# Altium integrated library ON Semi Silicon Controlled Rectifiers (SCRs).IntLib: 163 symbols (part 2 of 4)
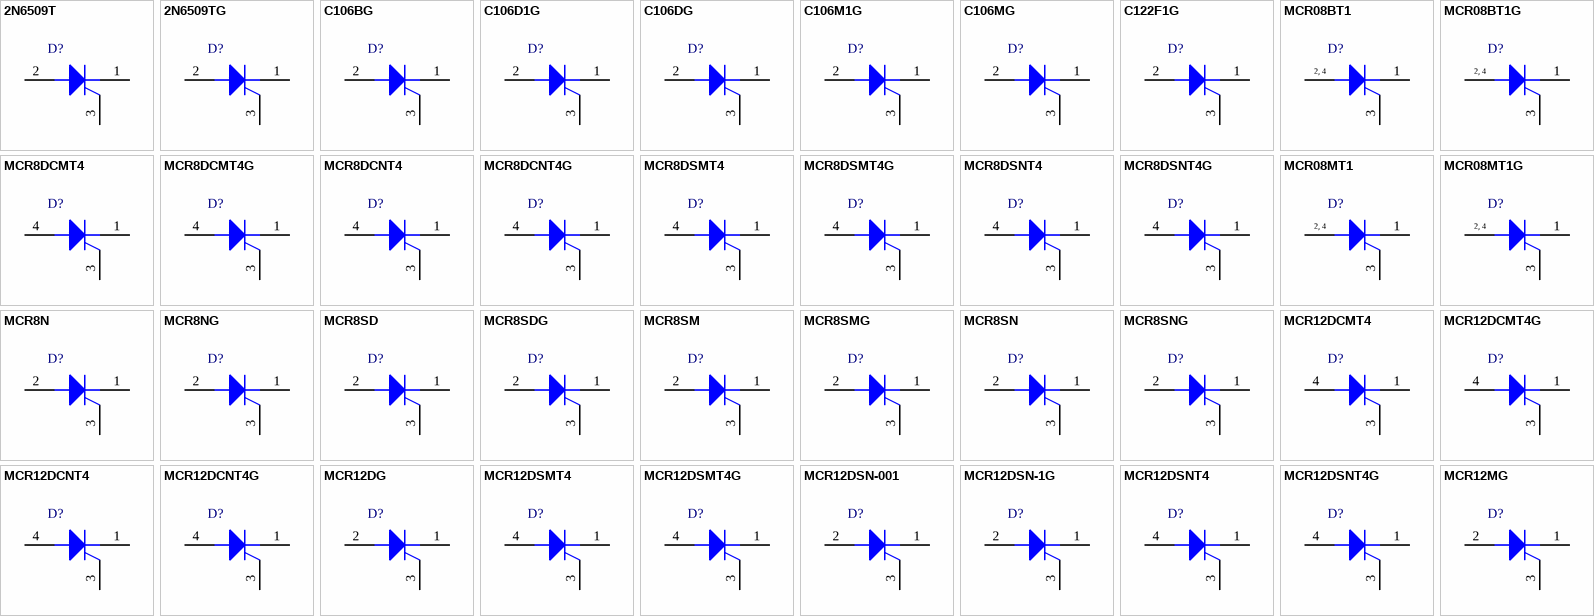
[diagram p5: symbols 2N6509T to MCR12MG]

## C106MG
designator D?
Sensitive Gate Silicon Controlled Rectifier, Reverse Blocking Thyristor, 3-Pin TO-225, Pb-Free, Bulk Box; Manufacturer: On Semiconductor; PartNumber: C106MG; IT(RMS) Max (A): 4; ITSM Max (A): 20; DatasheetVersion: Rev. 10; PackageVersion: Rev. Z; PackageReference: TO-225-3-77-09; PackageDescription: 3-Pin Flange Mount, Vertical Straight Lead, Body 7.62 x 2.54 mm, Pitch 2.39 mm; Supplier 1: Digi-Key; Supplier Part Number 1: C106MGOS-ND; Supplier 2: Farnell; Supplier Part Number 2: 1126403; Supplier 3: Newark; Supplier Part Number 3: 45J0658; Supplier 4: Mouser; Supplier Part Number 4: 863-C106MG; Packing: Bulk Box; RoHS: Pb-Free; Mounting Technology: Through Hole; ComponentLink1Description: Manufacturer URL; ComponentLink1URL: http://www.onsemi.com/; ComponentLink2Description: Datasheet; ComponentLink2URL: http://www.onsemi.cn/pub_link/Collateral/C106-D.PDF; ComponentLink3Description: Package Specification; ComponentLink3URL: http://www.onsemi.cn/pub_link/Collateral/C106-D.PDF
footprint ONSC-TO-225-3-77-09_Z (FM, 3-Leads, Body 7.75x2.7mm, Pitch 2.39mm)
pins: 1 K, 2 A, 3 G

## C122F1G
designator D?
Silicon Controlled Rectifier, Reverse Blocking Thyristor, 3-Pin TO-220, Pb-Free, Bulk Box; Manufacturer: On Semiconductor; PartNumber: C122F1G; IT(RMS) Max (A): 8; ITSM Max (A): 90; DatasheetVersion: Rev. 4; PackageVersion: Rev. O, 07/2008; PackageReference: TO-220-3-221A-07; PackageDescription: 3-Pin Flange Mount, Vertical Straight Lead, Body 9.97 x 4.445 mm, Pitch 2.54 mm; Supplier 1: Digi-Key; Supplier Part Number 1: C122F1GOS-ND; Supplier 2: Farnell; Supplier Part Number 2: 1192531; Supplier 3: Newark; Supplier Part Number 3: 26K3584; Supplier 4: Mouser; Supplier Part Number 4: 863-C122F1G; Packing: Bulk Box; RoHS: Pb-Free; Mounting Technology: Through Hole; ComponentLink1Description: Manufacturer URL; ComponentLink1URL: http://www.onsemi.com/; ComponentLink2Description: Datasheet; ComponentLink2URL: http://www.onsemi.cn/pub_link/Collateral/C122F1-D.PDF; ComponentLink3Description: Package Specification; ComponentLink3URL: http://www.onsemi.com/pub_link/Collateral/221A-07.PDF
footprint ONSC-TO-220-3-221A-07 (FM, 3-Leads, Body 10.3x4.85mm, Pitch 2.54mm)
pins: 1 K, 2 A, 3 G

## MCR08BT1
designator D?
Sensitive Gate Silicon Controlled Rectifier, Reverse Blocking Thyristor, 0.2 mA, 0.8 V, 4-Pin SOT-223, Tape and Reel; Manufacturer: On Semiconductor; PartNumber: MCR08BT1; IGT Max (mA): 0.2; IT(RMS) Max (A): 0.8; ITSM Max (A): 8; DatasheetVersion: Rev. 6; PackageVersion: Rev. N, 08/2009; PackageReference: SOT-223-4-318E-04; PackageDescription: 4-Pin Small Outline Transistor, Body 6.5 x 3.5 mm, Pitch 2.3 mm; Supplier 1: Digi-Key; Supplier Part Number 1: MCR08BT1OSCT-ND; Supplier 2: Digi-Key; Supplier Part Number 2: MCR08BT1OSDKR-ND; Packing: Tape and Reel; VGT Max (V): 0.8; Mounting Technology: Surface Mount; ComponentLink1Description: Manufacturer URL; ComponentLink1URL: http://www.onsemi.com/; ComponentLink2Description: Datasheet; ComponentLink2URL: http://www.onsemi.cn/pub_link/Collateral/MCR08BT1-D.PDF; ComponentLink3Description: Package Specification; ComponentLink3URL: http://www.onsemi.com/pub_link/Collateral/318E-04.PDF
footprint ONSC-SOT-223-4-318E-04_V (SOT223, 4-Leads, Body 6.5x3.5mm, Pitch 2.3mm)
pins: 1 K, 2 A, 3 G, 4 A
text: 2, 4

## MCR08BT1G
designator D?
Sensitive Gate Silicon Controlled Rectifier, Reverse Blocking Thyristor, 0.2 mA, 0.8 V, 4-Pin SOT-223, Pb-Free, Tape and Reel; Manufacturer: On Semiconductor; PartNumber: MCR08BT1G; IGT Max (mA): 0.2; IT(RMS) Max (A): 0.8; ITSM Max (A): 8; DatasheetVersion: Rev. 6; PackageVersion: Rev. N, 08/2009; PackageReference: SOT-223-4-318E-04; PackageDescription: 4-Pin Small Outline Transistor, Body 6.5 x 3.5 mm, Pitch 2.3 mm; Supplier 1: Digi-Key; Supplier Part Number 1: MCR08BT1GOSTR-ND; Supplier 2: Digi-Key; Supplier Part Number 2: MCR08BT1GOSCT-ND; Supplier 3: Digi-Key; Supplier Part Number 3: MCR08BT1GOSDKR-ND; Supplier 4: Farnell; Supplier Part Number 4: 2317529; Supplier 5: Newark; Supplier Part Number 5: 45J0814; Supplier 6: Mouser; Supplier Part Number 6: 863-MCR08BT1G; Packing: Tape and Reel; RoHS: Pb-Free; VGT Max (V): 0.8; Mounting Technology: Surface Mount; ComponentLink1Description: Manufacturer URL; ComponentLink1URL: http://www.onsemi.com/; ComponentLink2Description: Datasheet; ComponentLink2URL: http://www.onsemi.cn/pub_link/Collateral/MCR08BT1-D.PDF; ComponentLink3Description: Package Specification; ComponentLink3URL: http://www.onsemi.com/pub_link/Collateral/318E-04.PDF
footprint ONSC-SOT-223-4-318E-04_V (SOT223, 4-Leads, Body 6.5x3.5mm, Pitch 2.3mm)
pins: 1 K, 2 A, 3 G, 4 A
text: 2, 4

## MCR8DCMT4
designator D?
Silicon Controlled Rectifier, Reverse Blocking Thyristor, 3-Pin DPAK, Tape and Reel; Manufacturer: On Semiconductor; PartNumber: MCR8DCMT4; IT(RMS) Max (A): 8; ITSM Max (A): 80; DatasheetVersion: Rev. 4; PackageVersion: Rev. E, 02/2014; PackageReference: DPAK-3-369C-01; PackageDescription: 3-Pin Flange Mount, Body 6.54 x 6.095 mm, Pitch 2.29 mm; Supplier 1: Digi-Key; Supplier Part Number 1: MCR8DCMT4-ND; Packing: Tape and Reel; Mounting Technology: Surface Mount; ComponentLink1Description: Manufacturer URL; ComponentLink1URL: http://www.onsemi.com/; ComponentLink2Description: Datasheet; ComponentLink2URL: http://www.onsemi.cn/pub_link/Collateral/MCR8DCM-D.PDF; ComponentLink3Description: Package Specification; ComponentLink3URL: http://www.onsemi.cn/pub_link/Collateral/369C.PDF
footprint ONSC-DPAK-3-369C-01_V (DPAK, 3-Leads, Body 6.54x6.095mm, Pitch 2.29mm)
pins: 1 K, 3 G, 4 A

## MCR8DCMT4G
designator D?
Silicon Controlled Rectifier, Reverse Blocking Thyristor, 3-Pin DPAK, Pb-Free, Tape and Reel; Manufacturer: On Semiconductor; PartNumber: MCR8DCMT4G; IT(RMS) Max (A): 8; ITSM Max (A): 80; DatasheetVersion: Rev. 4; PackageVersion: Rev. E, 02/2014; PackageReference: DPAK-3-369C-01; PackageDescription: 3-Pin Flange Mount, Body 6.54 x 6.095 mm, Pitch 2.29 mm; Supplier 1: Digi-Key; Supplier Part Number 1: MCR8DCMT4GOSTR-ND; Supplier 2: Digi-Key; Supplier Part Number 2: MCR8DCMT4GOSCT-ND; Supplier 3: Digi-Key; Supplier Part Number 3: MCR8DCMT4GOSDKR-ND; Supplier 4: Farnell; Supplier Part Number 4: 1363004; Supplier 5: Newark; Supplier Part Number 5: 11J1347; Supplier 6: Mouser; Supplier Part Number 6: 863-MCR8DCMT4G; Packing: Tape and Reel; RoHS: Pb-Free; Mounting Technology: Surface Mount; ComponentLink1Description: Manufacturer URL; ComponentLink1URL: http://www.onsemi.com/; ComponentLink2Description: Datasheet; ComponentLink2URL: http://www.onsemi.cn/pub_link/Collateral/MCR8DCM-D.PDF; ComponentLink3Description: Package Specification; ComponentLink3URL: http://www.onsemi.cn/pub_link/Collateral/369C.PDF
footprint ONSC-DPAK-3-369C-01_V (DPAK, 3-Leads, Body 6.54x6.095mm, Pitch 2.29mm)
pins: 1 K, 3 G, 4 A

## MCR8DCNT4
designator D?
Silicon Controlled Rectifier, Reverse Blocking Thyristor, 3-Pin DPAK, Tape and Reel; Manufacturer: On Semiconductor; PartNumber: MCR8DCNT4; IT(RMS) Max (A): 8; ITSM Max (A): 80; DatasheetVersion: Rev. 4; PackageVersion: Rev. E, 02/2014; PackageReference: DPAK-3-369C-01; PackageDescription: 3-Pin Flange Mount, Body 6.54 x 6.095 mm, Pitch 2.29 mm; Packing: Tape and Reel; Mounting Technology: Surface Mount; ComponentLink1Description: Manufacturer URL; ComponentLink1URL: http://www.onsemi.com/; ComponentLink2Description: Datasheet; ComponentLink2URL: http://www.onsemi.cn/pub_link/Collateral/MCR8DCM-D.PDF; ComponentLink3Description: Package Specification; ComponentLink3URL: http://www.onsemi.cn/pub_link/Collateral/369C.PDF
footprint ONSC-DPAK-3-369C-01_V (DPAK, 3-Leads, Body 6.54x6.095mm, Pitch 2.29mm)
pins: 1 K, 3 G, 4 A

## MCR8DCNT4G
designator D?
Silicon Controlled Rectifier, Reverse Blocking Thyristor, 3-Pin DPAK, Pb-Free, Tape and Reel; Manufacturer: On Semiconductor; PartNumber: MCR8DCNT4G; IT(RMS) Max (A): 8; ITSM Max (A): 80; DatasheetVersion: Rev. 4; PackageVersion: Rev. E, 02/2014; PackageReference: DPAK-3-369C-01; PackageDescription: 3-Pin Flange Mount, Body 6.54 x 6.095 mm, Pitch 2.29 mm; Supplier 1: Digi-Key; Supplier Part Number 1: MCR8DCNT4GOSTR-ND; Supplier 2: Digi-Key; Supplier Part Number 2: MCR8DCNT4GOSCT-ND; Supplier 3: Newark; Supplier Part Number 3: 26K3709; Supplier 4: Mouser; Supplier Part Number 4: 863-MCR8DCNT4G; Packing: Tape and Reel; RoHS: Pb-Free; Mounting Technology: Surface Mount; ComponentLink1Description: Manufacturer URL; ComponentLink1URL: http://www.onsemi.com/; ComponentLink2Description: Datasheet; ComponentLink2URL: http://www.onsemi.cn/pub_link/Collateral/MCR8DCM-D.PDF; ComponentLink3Description: Package Specification; ComponentLink3URL: http://www.onsemi.cn/pub_link/Collateral/369C.PDF
footprint ONSC-DPAK-3-369C-01_V (DPAK, 3-Leads, Body 6.54x6.095mm, Pitch 2.29mm)
pins: 1 K, 3 G, 4 A

## MCR8DSMT4
designator D?
Sensitive Gate Silicon Controlled Rectifier, Reverse Blocking Thyristor, 3-Pin DPAK, Tape and Reel; Manufacturer: On Semiconductor; PartNumber: MCR8DSMT4; IT(RMS) Max (A): 8; ITSM Max (A): 90; DatasheetVersion: Rev. 7; PackageVersion: Rev. E, 02/2014; PackageReference: DPAK-3-369C-01; PackageDescription: 3-Pin Flange Mount, Body 6.54 x 6.095 mm, Pitch 2.29 mm; Supplier 1: Digi-Key; Supplier Part Number 1: MCR8DSMT4-ND; Packing: Tape and Reel; Mounting Technology: Surface Mount; ComponentLink1Description: Manufacturer URL; ComponentLink1URL: http://www.onsemi.com/; ComponentLink2Description: Datasheet; ComponentLink2URL: http://www.onsemi.cn/pub_link/Collateral/MCR8DSM-D.PDF; ComponentLink3Description: Package Specification; ComponentLink3URL: http://www.onsemi.cn/pub_link/Collateral/369C.PDF
footprint ONSC-DPAK-3-369C-01_V (DPAK, 3-Leads, Body 6.54x6.095mm, Pitch 2.29mm)
pins: 1 K, 3 G, 4 A

## MCR8DSMT4G
designator D?
Sensitive Gate Silicon Controlled Rectifier, Reverse Blocking Thyristor, 3-Pin DPAK, Pb-Free, Tape and Reel; Manufacturer: On Semiconductor; PartNumber: MCR8DSMT4G; IT(RMS) Max (A): 8; ITSM Max (A): 90; DatasheetVersion: Rev. 7; PackageVersion: Rev. E, 02/2014; PackageReference: DPAK-3-369C-01; PackageDescription: 3-Pin Flange Mount, Body 6.54 x 6.095 mm, Pitch 2.29 mm; Supplier 1: Digi-Key; Supplier Part Number 1: MCR8DSMT4GOSTR-ND; Supplier 2: Digi-Key; Supplier Part Number 2: MCR8DSMT4GOSCT-ND; Supplier 3: Digi-Key; Supplier Part Number 3: MCR8DSMT4GOSDKR-ND; Supplier 4: Newark; Supplier Part Number 4: 71J5368; Supplier 5: Mouser; Supplier Part Number 5: 863-MCR8DSMT4G; Packing: Tape and Reel; RoHS: Pb-Free; Mounting Technology: Surface Mount; ComponentLink1Description: Manufacturer URL; ComponentLink1URL: http://www.onsemi.com/; ComponentLink2Description: Datasheet; ComponentLink2URL: http://www.onsemi.cn/pub_link/Collateral/MCR8DSM-D.PDF; ComponentLink3Description: Package Specification; ComponentLink3URL: http://www.onsemi.cn/pub_link/Collateral/369C.PDF
footprint ONSC-DPAK-3-369C-01_V (DPAK, 3-Leads, Body 6.54x6.095mm, Pitch 2.29mm)
pins: 1 K, 3 G, 4 A

## MCR8DSNT4
designator D?
Sensitive Gate Silicon Controlled Rectifier, Reverse Blocking Thyristor, 3-Pin DPAK, Tape and Reel; Manufacturer: On Semiconductor; PartNumber: MCR8DSNT4; IT(RMS) Max (A): 8; ITSM Max (A): 90; DatasheetVersion: Rev. 7; PackageVersion: Rev. E, 02/2014; PackageReference: DPAK-3-369C-01; PackageDescription: 3-Pin Flange Mount, Body 6.54 x 6.095 mm, Pitch 2.29 mm; Packing: Tape and Reel; Mounting Technology: Surface Mount; ComponentLink1Description: Manufacturer URL; ComponentLink1URL: http://www.onsemi.com/; ComponentLink2Description: Datasheet; ComponentLink2URL: http://www.onsemi.cn/pub_link/Collateral/MCR8DSM-D.PDF; ComponentLink3Description: Package Specification; ComponentLink3URL: http://www.onsemi.cn/pub_link/Collateral/369C.PDF
footprint ONSC-DPAK-3-369C-01_V (DPAK, 3-Leads, Body 6.54x6.095mm, Pitch 2.29mm)
pins: 1 K, 3 G, 4 A

## MCR8DSNT4G
designator D?
Sensitive Gate Silicon Controlled Rectifier, Reverse Blocking Thyristor, 3-Pin DPAK, Pb-Free, Tape and Reel; Manufacturer: On Semiconductor; PartNumber: MCR8DSNT4G; IT(RMS) Max (A): 8; ITSM Max (A): 90; DatasheetVersion: Rev. 7; PackageVersion: Rev. E, 02/2014; PackageReference: DPAK-3-369C-01; PackageDescription: 3-Pin Flange Mount, Body 6.54 x 6.095 mm, Pitch 2.29 mm; Supplier 1: Digi-Key; Supplier Part Number 1: MCR8DSNT4G-ND; Supplier 2: Newark; Supplier Part Number 2: 85W2291; Supplier 3: Newark; Supplier Part Number 3: 45J0827; Supplier 4: Mouser; Supplier Part Number 4: 863-MCR8DSNT4G; Packing: Tape and Reel; RoHS: Pb-Free; Mounting Technology: Surface Mount; ComponentLink1Description: Manufacturer URL; ComponentLink1URL: http://www.onsemi.com/; ComponentLink2Description: Datasheet; ComponentLink2URL: http://www.onsemi.cn/pub_link/Collateral/MCR8DSM-D.PDF; ComponentLink3Description: Package Specification; ComponentLink3URL: http://www.onsemi.cn/pub_link/Collateral/369C.PDF
footprint ONSC-DPAK-3-369C-01_V (DPAK, 3-Leads, Body 6.54x6.095mm, Pitch 2.29mm)
pins: 1 K, 3 G, 4 A

## MCR08MT1
designator D?
Sensitive Gate Silicon Controlled Rectifier, Reverse Blocking Thyristor, 0.2 mA, 0.8 V, 4-Pin SOT-223, Tape and Reel; Manufacturer: On Semiconductor; PartNumber: MCR08MT1; IGT Max (mA): 0.2; IT(RMS) Max (A): 0.8; ITSM Max (A): 8; DatasheetVersion: Rev. 6; PackageVersion: Rev. N, 08/2009; PackageReference: SOT-223-4-318E-04; PackageDescription: 4-Pin Small Outline Transistor, Body 6.5 x 3.5 mm, Pitch 2.3 mm; Supplier 1: Digi-Key; Supplier Part Number 1: MCR08MT1OSCT-ND; Supplier 2: Digi-Key; Supplier Part Number 2: MCR08MT1OSDKR-ND; Packing: Tape and Reel; VGT Max (V): 0.8; Mounting Technology: Surface Mount; ComponentLink1Description: Manufacturer URL; ComponentLink1URL: http://www.onsemi.com/; ComponentLink2Description: Datasheet; ComponentLink2URL: http://www.onsemi.cn/pub_link/Collateral/MCR08BT1-D.PDF; ComponentLink3Description: Package Specification; ComponentLink3URL: http://www.onsemi.com/pub_link/Collateral/318E-04.PDF
footprint ONSC-SOT-223-4-318E-04_V (SOT223, 4-Leads, Body 6.5x3.5mm, Pitch 2.3mm)
pins: 1 K, 2 A, 3 G, 4 A
text: 2, 4

## MCR08MT1G
designator D?
Sensitive Gate Silicon Controlled Rectifier, Reverse Blocking Thyristor, 0.2 mA, 0.8 V, 4-Pin SOT-223, Pb-Free, Tape and Reel; Manufacturer: On Semiconductor; PartNumber: MCR08MT1G; IGT Max (mA): 0.2; IT(RMS) Max (A): 0.8; ITSM Max (A): 8; DatasheetVersion: Rev. 6; PackageVersion: Rev. N, 08/2009; PackageReference: SOT-223-4-318E-04; PackageDescription: 4-Pin Small Outline Transistor, Body 6.5 x 3.5 mm, Pitch 2.3 mm; Supplier 1: Digi-Key; Supplier Part Number 1: MCR08MT1GOSTR-ND; Supplier 2: Digi-Key; Supplier Part Number 2: MCR08MT1GOSCT-ND; Supplier 3: Digi-Key; Supplier Part Number 3: MCR08MT1GOSDKR-ND; Supplier 4: Farnell; Supplier Part Number 4: 1459080; Supplier 5: Farnell; Supplier Part Number 5: 1459080RL; Supplier 6: Newark; Supplier Part Number 6: 58M8998; Supplier 7: Newark; Supplier Part Number 7: 88H4690; Supplier 8: Mouser; Supplier Part Number 8: 863-MCR08MT1G; Packing: Tape and Reel; RoHS: Pb-Free; VGT Max (V): 0.8; Mounting Technology: Surface Mount; ComponentLink1Description: Manufacturer URL; ComponentLink1URL: http://www.onsemi.com/; ComponentLink2Description: Datasheet; ComponentLink2URL: http://www.onsemi.cn/pub_link/Collateral/MCR08BT1-D.PDF; ComponentLink3Description: Package Specification; ComponentLink3URL: http://www.onsemi.com/pub_link/Collateral/318E-04.PDF
footprint ONSC-SOT-223-4-318E-04_V (SOT223, 4-Leads, Body 6.5x3.5mm, Pitch 2.3mm)
pins: 1 K, 2 A, 3 G, 4 A
text: 2, 4

## MCR8N
designator D?
Silicon Controlled Rectifier, Reverse Blocking Thyristor, 15 mA, 1 V, 3-Pin TO-220, Tube; Manufacturer: On Semiconductor; PartNumber: MCR8N; IGT Max (mA): 15; IT(RMS) Max (A): 8; ITSM Max (A): 80; VGT Max (V): 1; DatasheetVersion: Rev. 5; PackageVersion: Rev. AA; PackageReference: TO-220-3-221A-09_AA; PackageDescription: 3-Pin Flange Mount, Vertical Straight Lead, Body 9.97 x 4.445 mm, Pitch 2.54 mm; Supplier 1: Digi-Key; Supplier Part Number 1: MCR8NOS-ND; Packing: Tube; Mounting Technology: Through Hole; ComponentLink1Description: Manufacturer URL; ComponentLink1URL: http://www.onsemi.com/; ComponentLink2Description: Datasheet; ComponentLink2URL: http://www.onsemi.cn/pub_link/Collateral/MCR8-D.PDF; ComponentLink3Description: Package Specification; ComponentLink3URL: http://www.onsemi.com/pub_link/Collateral/MAC16C-D.PDF
footprint ONSC-TO-220-3-221A-09_AA (FM, 3-Leads, Body 10.3x4.85mm, Pitch 2.54mm)
pins: 1 K, 2 A, 3 G

## MCR8NG
designator D?
Silicon Controlled Rectifier, Reverse Blocking Thyristor, 15 mA, 1 V, 3-Pin TO-220, Pb-Free, Tube; Manufacturer: On Semiconductor; PartNumber: MCR8NG; IGT Max (mA): 15; IT(RMS) Max (A): 8; ITSM Max (A): 80; VGT Max (V): 1; DatasheetVersion: Rev. 5; PackageVersion: Rev. AA; PackageReference: TO-220-3-221A-09_AA; PackageDescription: 3-Pin Flange Mount, Vertical Straight Lead, Body 9.97 x 4.445 mm, Pitch 2.54 mm; Supplier 1: Digi-Key; Supplier Part Number 1: MCR8NGOS-ND; Supplier 2: Farnell; Supplier Part Number 2: 1136084; Supplier 3: Newark; Supplier Part Number 3: 26K3710; Supplier 4: Mouser; Supplier Part Number 4: 863-MCR8NG; Packing: Tube; RoHS: Pb-Free; Mounting Technology: Through Hole; ComponentLink1Description: Manufacturer URL; ComponentLink1URL: http://www.onsemi.com/; ComponentLink2Description: Datasheet; ComponentLink2URL: http://www.onsemi.cn/pub_link/Collateral/MCR8-D.PDF; ComponentLink3Description: Package Specification; ComponentLink3URL: http://www.onsemi.com/pub_link/Collateral/MAC16C-D.PDF
footprint ONSC-TO-220-3-221A-09_AA (FM, 3-Leads, Body 10.3x4.85mm, Pitch 2.54mm)
pins: 1 K, 2 A, 3 G

## MCR8SD
designator D?
Sensitive Gate Silicon Controlled Rectifier, Reverse Blocking Thyristor, 0.2 mA, 3-Pin TO-220, Tube; Manufacturer: On Semiconductor; PartNumber: MCR8SD; IGT Max (mA): 0.2; IT(RMS) Max (A): 8; ITSM Max (A): 80; DatasheetVersion: Rev. 4; PackageVersion: Rev. AF; PackageReference: TO-220-3-221A-09_AF; PackageDescription: 3-Pin Flange Mount, Vertical Straight Lead, Body 9.97 x 4.445 mm, Pitch 2.54 mm; Supplier 1: Digi-Key; Supplier Part Number 1: MCR8SD-ND; Packing: Tube; Mounting Technology: Through Hole; ComponentLink1Description: Manufacturer URL; ComponentLink1URL: http://www.onsemi.com/; ComponentLink2Description: Datasheet; ComponentLink2URL: http://www.onsemi.cn/pub_link/Collateral/MCR8S-D.PDF; ComponentLink3Description: Package Specification; ComponentLink3URL: http://www.onsemi.cn/pub_link/Collateral/MCR8S-D.PDF
footprint ONSC-TO-220-3-221A-09_AF (FM, 3-Leads, Body 10.3x4.85mm, Pitch 2.54mm)
pins: 1 K, 2 A, 3 G

## MCR8SDG
designator D?
Sensitive Gate Silicon Controlled Rectifier, Reverse Blocking Thyristor, 0.2 mA, 3-Pin TO-220, Pb-Free, Tube; Manufacturer: On Semiconductor; PartNumber: MCR8SDG; IGT Max (mA): 0.2; IT(RMS) Max (A): 8; ITSM Max (A): 80; DatasheetVersion: Rev. 4; PackageVersion: Rev. AF; PackageReference: TO-220-3-221A-09_AF; PackageDescription: 3-Pin Flange Mount, Vertical Straight Lead, Body 9.97 x 4.445 mm, Pitch 2.54 mm; Supplier 1: Digi-Key; Supplier Part Number 1: MCR8SDGOS-ND; Supplier 2: Farnell; Supplier Part Number 2: 1364045; Supplier 3: Newark; Supplier Part Number 3: 26K3711; Supplier 4: Mouser; Supplier Part Number 4: 863-MCR8SDG; Packing: Tube; RoHS: Pb-Free; Mounting Technology: Through Hole; ComponentLink1Description: Manufacturer URL; ComponentLink1URL: http://www.onsemi.com/; ComponentLink2Description: Datasheet; ComponentLink2URL: http://www.onsemi.cn/pub_link/Collateral/MCR8S-D.PDF; ComponentLink3Description: Package Specification; ComponentLink3URL: http://www.onsemi.cn/pub_link/Collateral/MCR8S-D.PDF
footprint ONSC-TO-220-3-221A-09_AF (FM, 3-Leads, Body 10.3x4.85mm, Pitch 2.54mm)
pins: 1 K, 2 A, 3 G

## MCR8SM
designator D?
Sensitive Gate Silicon Controlled Rectifier, Reverse Blocking Thyristor, 0.2 mA, 3-Pin TO-220, Tube; Manufacturer: On Semiconductor; PartNumber: MCR8SM; IGT Max (mA): 0.2; IT(RMS) Max (A): 8; ITSM Max (A): 80; DatasheetVersion: Rev. 4; PackageVersion: Rev. AF; PackageReference: TO-220-3-221A-09_AF; PackageDescription: 3-Pin Flange Mount, Vertical Straight Lead, Body 9.97 x 4.445 mm, Pitch 2.54 mm; Supplier 1: Digi-Key; Supplier Part Number 1: MCR8SMOS-ND; Packing: Tube; Mounting Technology: Through Hole; ComponentLink1Description: Manufacturer URL; ComponentLink1URL: http://www.onsemi.com/; ComponentLink2Description: Datasheet; ComponentLink2URL: http://www.onsemi.cn/pub_link/Collateral/MCR8S-D.PDF; ComponentLink3Description: Package Specification; ComponentLink3URL: http://www.onsemi.cn/pub_link/Collateral/MCR8S-D.PDF
footprint ONSC-TO-220-3-221A-09_AF (FM, 3-Leads, Body 10.3x4.85mm, Pitch 2.54mm)
pins: 1 K, 2 A, 3 G

## MCR8SMG
designator D?
Sensitive Gate Silicon Controlled Rectifier, Reverse Blocking Thyristor, 0.2 mA, 3-Pin TO-220, Pb-Free, Tube; Manufacturer: On Semiconductor; PartNumber: MCR8SMG; IGT Max (mA): 0.2; IT(RMS) Max (A): 8; ITSM Max (A): 80; DatasheetVersion: Rev. 4; PackageVersion: Rev. AF; PackageReference: TO-220-3-221A-09_AF; PackageDescription: 3-Pin Flange Mount, Vertical Straight Lead, Body 9.97 x 4.445 mm, Pitch 2.54 mm; Supplier 1: Digi-Key; Supplier Part Number 1: MCR8SMGOS-ND; Supplier 2: Farnell; Supplier Part Number 2: 1705797; Supplier 3: Newark; Supplier Part Number 3: 26K3712; Supplier 4: Mouser; Supplier Part Number 4: 863-MCR8SMG; Packing: Tube; RoHS: Pb-Free; Mounting Technology: Through Hole; ComponentLink1Description: Manufacturer URL; ComponentLink1URL: http://www.onsemi.com/; ComponentLink2Description: Datasheet; ComponentLink2URL: http://www.onsemi.cn/pub_link/Collateral/MCR8S-D.PDF; ComponentLink3Description: Package Specification; ComponentLink3URL: http://www.onsemi.cn/pub_link/Collateral/MCR8S-D.PDF
footprint ONSC-TO-220-3-221A-09_AF (FM, 3-Leads, Body 10.3x4.85mm, Pitch 2.54mm)
pins: 1 K, 2 A, 3 G

## MCR8SN
designator D?
Sensitive Gate Silicon Controlled Rectifier, Reverse Blocking Thyristor, 0.2 mA, 3-Pin TO-220, Tube; Manufacturer: On Semiconductor; PartNumber: MCR8SN; IGT Max (mA): 0.2; IT(RMS) Max (A): 8; ITSM Max (A): 80; DatasheetVersion: Rev. 4; PackageVersion: Rev. AF; PackageReference: TO-220-3-221A-09_AF; PackageDescription: 3-Pin Flange Mount, Vertical Straight Lead, Body 9.97 x 4.445 mm, Pitch 2.54 mm; Packing: Tube; Mounting Technology: Through Hole; ComponentLink1Description: Manufacturer URL; ComponentLink1URL: http://www.onsemi.com/; ComponentLink2Description: Datasheet; ComponentLink2URL: http://www.onsemi.cn/pub_link/Collateral/MCR8S-D.PDF; ComponentLink3Description: Package Specification; ComponentLink3URL: http://www.onsemi.cn/pub_link/Collateral/MCR8S-D.PDF
footprint ONSC-TO-220-3-221A-09_AF (FM, 3-Leads, Body 10.3x4.85mm, Pitch 2.54mm)
pins: 1 K, 2 A, 3 G

## MCR8SNG
designator D?
Sensitive Gate Silicon Controlled Rectifier, Reverse Blocking Thyristor, 0.2 mA, 3-Pin TO-220, Pb-Free, Tube; Manufacturer: On Semiconductor; PartNumber: MCR8SNG; IGT Max (mA): 0.2; IT(RMS) Max (A): 8; ITSM Max (A): 80; DatasheetVersion: Rev. 4; PackageVersion: Rev. AF; PackageReference: TO-220-3-221A-09_AF; PackageDescription: 3-Pin Flange Mount, Vertical Straight Lead, Body 9.97 x 4.445 mm, Pitch 2.54 mm; Supplier 1: Digi-Key; Supplier Part Number 1: MCR8SNGOS-ND; Supplier 2: Farnell; Supplier Part Number 2: 1705798; Supplier 3: Newark; Supplier Part Number 3: 26K3713; Supplier 4: Mouser; Supplier Part Number 4: 863-MCR8SNG; Packing: Tube; RoHS: Pb-Free; Mounting Technology: Through Hole; ComponentLink1Description: Manufacturer URL; ComponentLink1URL: http://www.onsemi.com/; ComponentLink2Description: Datasheet; ComponentLink2URL: http://www.onsemi.cn/pub_link/Collateral/MCR8S-D.PDF; ComponentLink3Description: Package Specification; ComponentLink3URL: http://www.onsemi.cn/pub_link/Collateral/MCR8S-D.PDF
footprint ONSC-TO-220-3-221A-09_AF (FM, 3-Leads, Body 10.3x4.85mm, Pitch 2.54mm)
pins: 1 K, 2 A, 3 G

## MCR12DCMT4
designator D?
Silicon Controlled Rectifier, Reverse Blocking Thyristor, 3-Pin DPAK, Tape and Reel; Manufacturer: On Semiconductor; PartNumber: MCR12DCMT4; IT(RMS) Max (A): 12; ITSM Max (A): 100; DatasheetVersion: Rev. 5; PackageVersion: Rev. E, 02/2014; PackageReference: DPAK-3-369C-01; PackageDescription: 3-Pin Flange Mount, Body 6.54 x 6.095 mm, Pitch 2.29 mm; Supplier 1: Digi-Key; Supplier Part Number 1: MCR12DCMT4OSCT-ND; Supplier 2: Digi-Key; Supplier Part Number 2: MCR12DCMT4OSDKR-ND; Packing: Tape and Reel; Mounting Technology: Surface Mount; ComponentLink1Description: Manufacturer URL; ComponentLink1URL: http://www.onsemi.com/; ComponentLink2Description: Datasheet; ComponentLink2URL: http://www.onsemi.cn/pub_link/Collateral/MCR12DCM-D.PDF; ComponentLink3Description: Package Specification; ComponentLink3URL: http://www.onsemi.cn/pub_link/Collateral/369C.PDF
footprint ONSC-DPAK-3-369C-01_V (DPAK, 3-Leads, Body 6.54x6.095mm, Pitch 2.29mm)
pins: 1 K, 3 G, 4 A

## MCR12DCMT4G
designator D?
Silicon Controlled Rectifier, Reverse Blocking Thyristor, 3-Pin DPAK, Pb-Free, Tape and Reel; Manufacturer: On Semiconductor; PartNumber: MCR12DCMT4G; IT(RMS) Max (A): 12; ITSM Max (A): 100; DatasheetVersion: Rev. 5; PackageVersion: Rev. E, 02/2014; PackageReference: DPAK-3-369C-01; PackageDescription: 3-Pin Flange Mount, Body 6.54 x 6.095 mm, Pitch 2.29 mm; Supplier 1: Digi-Key; Supplier Part Number 1: MCR12DCMT4GOSTR-ND; Supplier 2: Digi-Key; Supplier Part Number 2: MCR12DCMT4GOSCT-ND; Supplier 3: Digi-Key; Supplier Part Number 3: MCR12DCMT4GOSDKR-ND; Supplier 4: Farnell; Supplier Part Number 4: 1459081RL; Supplier 5: Farnell; Supplier Part Number 5: 1459081; Supplier 6: Newark; Supplier Part Number 6: 45J0819; Supplier 7: Mouser; Supplier Part Number 7: 863-MCR12DCMT4G; Packing: Tape and Reel; RoHS: Pb-Free; Mounting Technology: Surface Mount; ComponentLink1Description: Manufacturer URL; ComponentLink1URL: http://www.onsemi.com/; ComponentLink2Description: Datasheet; ComponentLink2URL: http://www.onsemi.cn/pub_link/Collateral/MCR12DCM-D.PDF; ComponentLink3Description: Package Specification; ComponentLink3URL: http://www.onsemi.cn/pub_link/Collateral/369C.PDF
footprint ONSC-DPAK-3-369C-01_V (DPAK, 3-Leads, Body 6.54x6.095mm, Pitch 2.29mm)
pins: 1 K, 3 G, 4 A

## MCR12DCNT4
designator D?
Silicon Controlled Rectifier, Reverse Blocking Thyristor, 3-Pin DPAK, Tape and Reel; Manufacturer: On Semiconductor; PartNumber: MCR12DCNT4; IT(RMS) Max (A): 12; ITSM Max (A): 100; DatasheetVersion: Rev. 5; PackageVersion: Rev. E, 02/2014; PackageReference: DPAK-3-369C-01; PackageDescription: 3-Pin Flange Mount, Body 6.54 x 6.095 mm, Pitch 2.29 mm; Supplier 1: Digi-Key; Supplier Part Number 1: MCR12DCNT4OSTR-ND; Supplier 2: Digi-Key; Supplier Part Number 2: MCR12DCNT4OSCT-ND; Supplier 3: Digi-Key; Supplier Part Number 3: MCR12DCNT4OSDKR-ND; Packing: Tape and Reel; Mounting Technology: Surface Mount; ComponentLink1Description: Manufacturer URL; ComponentLink1URL: http://www.onsemi.com/; ComponentLink2Description: Datasheet; ComponentLink2URL: http://www.onsemi.cn/pub_link/Collateral/MCR12DCM-D.PDF; ComponentLink3Description: Package Specification; ComponentLink3URL: http://www.onsemi.cn/pub_link/Collateral/369C.PDF
footprint ONSC-DPAK-3-369C-01_V (DPAK, 3-Leads, Body 6.54x6.095mm, Pitch 2.29mm)
pins: 1 K, 3 G, 4 A

## MCR12DCNT4G
designator D?
Silicon Controlled Rectifier, Reverse Blocking Thyristor, 3-Pin DPAK, Pb-Free, Tape and Reel; Manufacturer: On Semiconductor; PartNumber: MCR12DCNT4G; IT(RMS) Max (A): 12; ITSM Max (A): 100; DatasheetVersion: Rev. 5; PackageVersion: Rev. E, 02/2014; PackageReference: DPAK-3-369C-01; PackageDescription: 3-Pin Flange Mount, Body 6.54 x 6.095 mm, Pitch 2.29 mm; Supplier 1: Digi-Key; Supplier Part Number 1: MCR12DCNT4GOSTR-ND; Supplier 2: Digi-Key; Supplier Part Number 2: MCR12DCNT4GOSCT-ND; Supplier 3: Digi-Key; Supplier Part Number 3: MCR12DCNT4GOSDKR-ND; Supplier 4: Newark; Supplier Part Number 4: 42K0025; Supplier 5: Mouser; Supplier Part Number 5: 863-MCR12DCNT4G; Packing: Tape and Reel; RoHS: Pb-Free; Mounting Technology: Surface Mount; ComponentLink1Description: Manufacturer URL; ComponentLink1URL: http://www.onsemi.com/; ComponentLink2Description: Datasheet; ComponentLink2URL: http://www.onsemi.cn/pub_link/Collateral/MCR12DCM-D.PDF; ComponentLink3Description: Package Specification; ComponentLink3URL: http://www.onsemi.cn/pub_link/Collateral/369C.PDF
footprint ONSC-DPAK-3-369C-01_V (DPAK, 3-Leads, Body 6.54x6.095mm, Pitch 2.29mm)
pins: 1 K, 3 G, 4 A

## MCR12DG
designator D?
Silicon Controlled Rectifier, Reverse Blocking Thyristor, 20 mA, 1 V, 3-Pin TO-220, Pb-Free, Tube; Manufacturer: On Semiconductor; PartNumber: MCR12DG; IGT Max (mA): 20; IT(RMS) Max (A): 12; ITSM Max (A): 100; VGT Max (V): 1; DatasheetVersion: Rev. 5; PackageVersion: Rev. AG, 09/2011; PackageReference: TO-220-3-221A-09; PackageDescription: 3-Pin Flange Mount, Vertical Straight Lead, Body 9.97 x 4.445 mm, Pitch 2.54 mm; Supplier 1: Digi-Key; Supplier Part Number 1: MCR12DGOS-ND; Supplier 2: Newark; Supplier Part Number 2: 45J0820; Supplier 3: Mouser; Supplier Part Number 3: 863-MCR12DG; Packing: Tube; RoHS: Pb-Free; Mounting Technology: Through Hole; ComponentLink1Description: Manufacturer URL; ComponentLink1URL: http://www.onsemi.com/; ComponentLink2Description: Datasheet; ComponentLink2URL: http://www.onsemi.cn/pub_link/Collateral/MCR12-D.PDF; ComponentLink3Description: Package Specification; ComponentLink3URL: http://www.onsemi.com/pub_link/Collateral/221A-09.PDF
footprint ONSC-TO-220-3-221A-09 (FM, 3-Leads, Body 10.3x4.85mm, Pitch 2.54mm)
pins: 1 K, 2 A, 3 G

## MCR12DSMT4
designator D?
Sensitive Gate Silicon Controlled Rectifier, Reverse Blocking Thyristor, 3-Pin DPAK, Tape and Reel; Manufacturer: On Semiconductor; PartNumber: MCR12DSMT4; IT(RMS) Max (A): 12; ITSM Max (A): 100; DatasheetVersion: Rev. 7; PackageVersion: Rev. E, 02/2014; PackageReference: DPAK-3-369C-01; PackageDescription: 3-Pin Flange Mount, Body 6.54 x 6.095 mm, Pitch 2.29 mm; Supplier 1: Digi-Key; Supplier Part Number 1: MCR12DSMT4OSCT-ND; Supplier 2: Digi-Key; Supplier Part Number 2: MCR12DSMT4OSDKR-ND; Packing: Tape and Reel; Mounting Technology: Surface Mount; ComponentLink1Description: Manufacturer URL; ComponentLink1URL: http://www.onsemi.com/; ComponentLink2Description: Datasheet; ComponentLink2URL: http://www.onsemi.cn/pub_link/Collateral/MCR12DSM-D.PDF; ComponentLink3Description: Package Specification; ComponentLink3URL: http://www.onsemi.cn/pub_link/Collateral/369C.PDF
footprint ONSC-DPAK-3-369C-01_V (DPAK, 3-Leads, Body 6.54x6.095mm, Pitch 2.29mm)
pins: 1 K, 3 G, 4 A

## MCR12DSMT4G
designator D?
Sensitive Gate Silicon Controlled Rectifier, Reverse Blocking Thyristor, 3-Pin DPAK, Pb-Free, Tape and Reel; Manufacturer: On Semiconductor; PartNumber: MCR12DSMT4G; IT(RMS) Max (A): 12; ITSM Max (A): 100; DatasheetVersion: Rev. 7; PackageVersion: Rev. E, 02/2014; PackageReference: DPAK-3-369C-01; PackageDescription: 3-Pin Flange Mount, Body 6.54 x 6.095 mm, Pitch 2.29 mm; Supplier 1: Digi-Key; Supplier Part Number 1: MCR12DSMT4GOSTR-ND; Supplier 2: Digi-Key; Supplier Part Number 2: MCR12DSMT4GOSCT-ND; Supplier 3: Digi-Key; Supplier Part Number 3: MCR12DSMT4GOSDKR-ND; Supplier 4: Newark; Supplier Part Number 4: 45J0821; Supplier 5: Mouser; Supplier Part Number 5: 863-MCR12DSMT4G; Packing: Tape and Reel; RoHS: Pb-Free; Mounting Technology: Surface Mount; ComponentLink1Description: Manufacturer URL; ComponentLink1URL: http://www.onsemi.com/; ComponentLink2Description: Datasheet; ComponentLink2URL: http://www.onsemi.cn/pub_link/Collateral/MCR12DSM-D.PDF; ComponentLink3Description: Package Specification; ComponentLink3URL: http://www.onsemi.cn/pub_link/Collateral/369C.PDF
footprint ONSC-DPAK-3-369C-01_V (DPAK, 3-Leads, Body 6.54x6.095mm, Pitch 2.29mm)
pins: 1 K, 3 G, 4 A

## MCR12DSN-001
designator D?
Sensitive Gate Silicon Controlled Rectifier, Reverse Blocking Thyristor, 3-Pin IPAK, Tube; Manufacturer: On Semiconductor; PartNumber: MCR12DSN-001; IT(RMS) Max (A): 12; ITSM Max (A): 100; DatasheetVersion: Rev. 7; PackageVersion: Rev. C, 12/2010; PackageReference: IPAK-3-369D-01; PackageDescription: 3-Pin Flange Mount, Vertical Straight Lead, Body 6.54 x 2.285 mm, Pitch 2.29 mm; Supplier 1: Digi-Key; Supplier Part Number 1: MCR12DSN-001OS-ND; Supplier 2: Mouser; Supplier Part Number 2: 863-MCR12DSN-001; Packing: Tube; Mounting Technology: Through Hole; Code_JEDEC: TO-251; ComponentLink1Description: Manufacturer URL; ComponentLink1URL: http://www.onsemi.com/; ComponentLink2Description: Datasheet; ComponentLink2URL: http://www.onsemi.cn/pub_link/Collateral/MCR12DSM-D.PDF; ComponentLink3Description: Package Specification; ComponentLink3URL: http://www.onsemi.cn/pub_link/Collateral/369D.PDF
footprint ONSC-IPAK-3-369D-01 (FM, 3-Leads, Body 6.75x2.4mm, Pitch 2.29mm)
pins: 1 K, 2 A, 3 G

## MCR12DSN-1G
designator D?
Sensitive Gate Silicon Controlled Rectifier, Reverse Blocking Thyristor, 3-Pin IPAK, Pb-Free, Tube; Manufacturer: On Semiconductor; PartNumber: MCR12DSN-1G; IT(RMS) Max (A): 12; ITSM Max (A): 100; DatasheetVersion: Rev. 7; PackageVersion: Rev. C, 12/2010; PackageReference: IPAK-3-369D-01; PackageDescription: 3-Pin Flange Mount, Vertical Straight Lead, Body 6.54 x 2.285 mm, Pitch 2.29 mm; Supplier 1: Digi-Key; Supplier Part Number 1: MCR12DSN-1GOS-ND; Supplier 2: Mouser; Supplier Part Number 2: 863-MCR12DSN-1G; Packing: Tube; RoHS: Pb-Free; Mounting Technology: Through Hole; Code_JEDEC: TO-251; ComponentLink1Description: Manufacturer URL; ComponentLink1URL: http://www.onsemi.com/; ComponentLink2Description: Datasheet; ComponentLink2URL: http://www.onsemi.cn/pub_link/Collateral/MCR12DSM-D.PDF; ComponentLink3Description: Package Specification; ComponentLink3URL: http://www.onsemi.cn/pub_link/Collateral/369D.PDF
footprint ONSC-IPAK-3-369D-01 (FM, 3-Leads, Body 6.75x2.4mm, Pitch 2.29mm)
pins: 1 K, 2 A, 3 G

## MCR12DSNT4
designator D?
Sensitive Gate Silicon Controlled Rectifier, Reverse Blocking Thyristor, 3-Pin DPAK, Tape and Reel; Manufacturer: On Semiconductor; PartNumber: MCR12DSNT4; IT(RMS) Max (A): 12; ITSM Max (A): 100; DatasheetVersion: Rev. 7; PackageVersion: Rev. E, 02/2014; PackageReference: DPAK-3-369C-01; PackageDescription: 3-Pin Flange Mount, Body 6.54 x 6.095 mm, Pitch 2.29 mm; Packing: Tape and Reel; Mounting Technology: Surface Mount; ComponentLink1Description: Manufacturer URL; ComponentLink1URL: http://www.onsemi.com/; ComponentLink2Description: Datasheet; ComponentLink2URL: http://www.onsemi.cn/pub_link/Collateral/MCR12DSM-D.PDF; ComponentLink3Description: Package Specification; ComponentLink3URL: http://www.onsemi.cn/pub_link/Collateral/369C.PDF
footprint ONSC-DPAK-3-369C-01_V (DPAK, 3-Leads, Body 6.54x6.095mm, Pitch 2.29mm)
pins: 1 K, 3 G, 4 A

## MCR12DSNT4G
designator D?
Sensitive Gate Silicon Controlled Rectifier, Reverse Blocking Thyristor, 3-Pin DPAK, Pb-Free, Tape and Reel; Manufacturer: On Semiconductor; PartNumber: MCR12DSNT4G; IT(RMS) Max (A): 12; ITSM Max (A): 100; DatasheetVersion: Rev. 7; PackageVersion: Rev. E, 02/2014; PackageReference: DPAK-3-369C-01; PackageDescription: 3-Pin Flange Mount, Body 6.54 x 6.095 mm, Pitch 2.29 mm; Supplier 1: Digi-Key; Supplier Part Number 1: MCR12DSNT4GOSTR-ND; Supplier 2: Digi-Key; Supplier Part Number 2: MCR12DSNT4GOSCT-ND; Supplier 3: Digi-Key; Supplier Part Number 3: MCR12DSNT4GOSDKR-ND; Supplier 4: Farnell; Supplier Part Number 4: 1704994; Supplier 5: Newark; Supplier Part Number 5: 42K0027; Supplier 6: Mouser; Supplier Part Number 6: 863-MCR12DSNT4G; Packing: Tape and Reel; RoHS: Pb-Free; Mounting Technology: Surface Mount; ComponentLink1Description: Manufacturer URL; ComponentLink1URL: http://www.onsemi.com/; ComponentLink2Description: Datasheet; ComponentLink2URL: http://www.onsemi.cn/pub_link/Collateral/MCR12DSM-D.PDF; ComponentLink3Description: Package Specification; ComponentLink3URL: http://www.onsemi.cn/pub_link/Collateral/369C.PDF
footprint ONSC-DPAK-3-369C-01_V (DPAK, 3-Leads, Body 6.54x6.095mm, Pitch 2.29mm)
pins: 1 K, 3 G, 4 A

## MCR12MG
designator D?
Silicon Controlled Rectifier, Reverse Blocking Thyristor, 20 mA, 1 V, 3-Pin TO-220, Pb-Free, Tube; Manufacturer: On Semiconductor; PartNumber: MCR12MG; IGT Max (mA): 20; IT(RMS) Max (A): 12; ITSM Max (A): 100; VGT Max (V): 1; DatasheetVersion: Rev. 5; PackageVersion: Rev. AG, 09/2011; PackageReference: TO-220-3-221A-09; PackageDescription: 3-Pin Flange Mount, Vertical Straight Lead, Body 9.97 x 4.445 mm, Pitch 2.54 mm; Supplier 1: Digi-Key; Supplier Part Number 1: MCR12MGOS-ND; Supplier 2: Farnell; Supplier Part Number 2: 1209362; Supplier 3: Newark; Supplier Part Number 3: 26K3697; Supplier 4: Mouser; Supplier Part Number 4: 863-MCR12MG; Packing: Tube; RoHS: Pb-Free; Mounting Technology: Through Hole; ComponentLink1Description: Manufacturer URL; ComponentLink1URL: http://www.onsemi.com/; ComponentLink2Description: Datasheet; ComponentLink2URL: http://www.onsemi.cn/pub_link/Collateral/MCR12-D.PDF; ComponentLink3Description: Package Specification; ComponentLink3URL: http://www.onsemi.com/pub_link/Collateral/221A-09.PDF
footprint ONSC-TO-220-3-221A-09 (FM, 3-Leads, Body 10.3x4.85mm, Pitch 2.54mm)
pins: 1 K, 2 A, 3 G

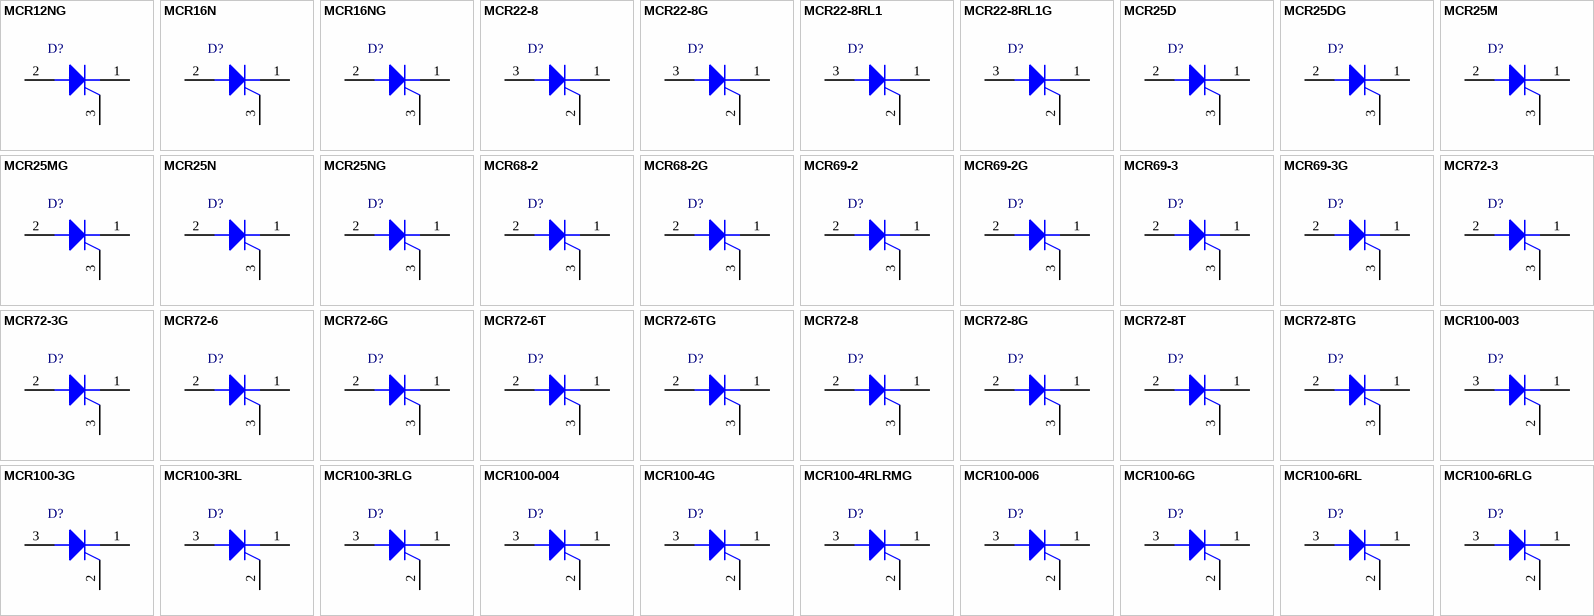
[diagram p2: symbols MCR12NG to MCR100-6RLG]

## MCR12NG
designator D?
Silicon Controlled Rectifier, Reverse Blocking Thyristor, 20 mA, 1 V, 3-Pin TO-220, Pb-Free, Tube; Manufacturer: On Semiconductor; PartNumber: MCR12NG; IGT Max (mA): 20; IT(RMS) Max (A): 12; ITSM Max (A): 100; VGT Max (V): 1; DatasheetVersion: Rev. 5; PackageVersion: Rev. AG, 09/2011; PackageReference: TO-220-3-221A-09; PackageDescription: 3-Pin Flange Mount, Vertical Straight Lead, Body 9.97 x 4.445 mm, Pitch 2.54 mm; Supplier 1: Digi-Key; Supplier Part Number 1: MCR12NGOS-ND; Supplier 2: Farnell; Supplier Part Number 2: 1364044; Supplier 3: Newark; Supplier Part Number 3: 26K3698; Supplier 4: Mouser; Supplier Part Number 4: 863-MCR12NG; Packing: Tube; RoHS: Pb-Free; Mounting Technology: Through Hole; ComponentLink1Description: Manufacturer URL; ComponentLink1URL: http://www.onsemi.com/; ComponentLink2Description: Datasheet; ComponentLink2URL: http://www.onsemi.cn/pub_link/Collateral/MCR12-D.PDF; ComponentLink3Description: Package Specification; ComponentLink3URL: http://www.onsemi.com/pub_link/Collateral/221A-09.PDF
footprint ONSC-TO-220-3-221A-09 (FM, 3-Leads, Body 10.3x4.85mm, Pitch 2.54mm)
pins: 1 K, 2 A, 3 G

## MCR16N
designator D?
Silicon Controlled Rectifier, Reverse Blocking Thyristor, 20 mA, 1 V, 3-Pin TO-220, Tube; Manufacturer: On Semiconductor; PartNumber: MCR16N; IGT Max (mA): 20; IT(RMS) Max (A): 16; ITSM Max (A): 160; VGT Max (V): 1; DatasheetVersion: Rev. 4; PackageVersion: Rev. AA; PackageReference: TO-220-3-221A-09_AA; PackageDescription: 3-Pin Flange Mount, Vertical Straight Lead, Body 9.97 x 4.445 mm, Pitch 2.54 mm; Packing: Tube; Mounting Technology: Through Hole; ComponentLink1Description: Manufacturer URL; ComponentLink1URL: http://www.onsemi.com/; ComponentLink2Description: Datasheet; ComponentLink2URL: http://www.onsemi.cn/pub_link/Collateral/MCR16-D.PDF; ComponentLink3Description: Package Specification; ComponentLink3URL: http://www.onsemi.com/pub_link/Collateral/MAC16C-D.PDF
footprint ONSC-TO-220-3-221A-09_AA (FM, 3-Leads, Body 10.3x4.85mm, Pitch 2.54mm)
pins: 1 K, 2 A, 3 G

## MCR16NG
designator D?
Silicon Controlled Rectifier, Reverse Blocking Thyristor, 20 mA, 1 V, 3-Pin TO-220, Pb-Free, Tube; Manufacturer: On Semiconductor; PartNumber: MCR16NG; IGT Max (mA): 20; IT(RMS) Max (A): 16; ITSM Max (A): 160; VGT Max (V): 1; DatasheetVersion: Rev. 4; PackageVersion: Rev. AA; PackageReference: TO-220-3-221A-09_AA; PackageDescription: 3-Pin Flange Mount, Vertical Straight Lead, Body 9.97 x 4.445 mm, Pitch 2.54 mm; Supplier 1: Digi-Key; Supplier Part Number 1: MCR16NGOS-ND; Supplier 2: Farnell; Supplier Part Number 2: 1705795; Supplier 3: Newark; Supplier Part Number 3: 26K3699; Supplier 4: Mouser; Supplier Part Number 4: 863-MCR16NG; Packing: Tube; RoHS: Pb-Free; Mounting Technology: Through Hole; ComponentLink1Description: Manufacturer URL; ComponentLink1URL: http://www.onsemi.com/; ComponentLink2Description: Datasheet; ComponentLink2URL: http://www.onsemi.cn/pub_link/Collateral/MCR16-D.PDF; ComponentLink3Description: Package Specification; ComponentLink3URL: http://www.onsemi.com/pub_link/Collateral/MAC16C-D.PDF
footprint ONSC-TO-220-3-221A-09_AA (FM, 3-Leads, Body 10.3x4.85mm, Pitch 2.54mm)
pins: 1 K, 2 A, 3 G

## MCR22-8
designator D?
Sensitive Gate Silicon Controlled Rectifier, Reverse Blocking Thyristor, 3-Pin TO-92, Bulk Box; Manufacturer: On Semiconductor; PartNumber: MCR22-8; IT(RMS) Max (A): 1.5; ITSM Max (A): 15; DatasheetVersion: Rev. 6; PackageVersion: Rev. AM; PackageReference: TO-92-3-29-11_AM_SL; PackageDescription: 3-Pin Transistor Outline, Body 4.825 x 3.685 mm, Pitch 1.27 mm; Packing: Bulk Box; Mounting Technology: Through Hole; ComponentLink1Description: Manufacturer URL; ComponentLink1URL: http://www.onsemi.com/; ComponentLink2Description: Datasheet; ComponentLink2URL: http://www.onsemi.cn/pub_link/Collateral/MCR22-6-D.PDF; ComponentLink3Description: Package Specification; ComponentLink3URL: http://www.onsemi.cn/pub_link/Collateral/2N6426-D.PDF
footprint ONSC-TO-92-3-29-11 (TO, 3-Leads, Body Dia 4.7mm, Pitch 1.27mm)
pins: 1 K, 2 G, 3 A

## MCR22-8G
designator D?
Sensitive Gate Silicon Controlled Rectifier, Reverse Blocking Thyristor, 3-Pin TO-92, Pb-Free, Bulk Box; Manufacturer: On Semiconductor; PartNumber: MCR22-8G; IT(RMS) Max (A): 1.5; ITSM Max (A): 15; DatasheetVersion: Rev. 6; PackageVersion: Rev. AM; PackageReference: TO-92-3-29-11_AM_SL; PackageDescription: 3-Pin Transistor Outline, Body 4.825 x 3.685 mm, Pitch 1.27 mm; Supplier 1: Digi-Key; Supplier Part Number 1: MCR22-8GOS-ND; Supplier 2: Farnell; Supplier Part Number 2: 1277932; Supplier 3: Newark; Supplier Part Number 3: 26K3703; Supplier 4: Mouser; Supplier Part Number 4: 863-MCR22-8G; Packing: Bulk Box; RoHS: Pb-Free; Mounting Technology: Through Hole; ComponentLink1Description: Manufacturer URL; ComponentLink1URL: http://www.onsemi.com/; ComponentLink2Description: Datasheet; ComponentLink2URL: http://www.onsemi.cn/pub_link/Collateral/MCR22-6-D.PDF; ComponentLink3Description: Package Specification; ComponentLink3URL: http://www.onsemi.cn/pub_link/Collateral/2N6426-D.PDF
footprint ONSC-TO-92-3-29-11 (TO, 3-Leads, Body Dia 4.7mm, Pitch 1.27mm)
pins: 1 K, 2 G, 3 A

## MCR22-8RL1
designator D?
Sensitive Gate Silicon Controlled Rectifier, Reverse Blocking Thyristor, 3-Pin TO-92, Tape and Reel; Manufacturer: On Semiconductor; PartNumber: MCR22-8RL1; IT(RMS) Max (A): 1.5; ITSM Max (A): 15; DatasheetVersion: Rev. 6; PackageVersion: Rev. AM; PackageReference: TO-92-3-29-11_AM_SL; PackageDescription: 3-Pin Transistor Outline, Body 4.825 x 3.685 mm, Pitch 1.27 mm; Supplier 1: Digi-Key; Supplier Part Number 1: MCR22-8RL1OSTR-ND; Supplier 2: Digi-Key; Supplier Part Number 2: MCR22-8RL1OSCT-ND; Packing: Tape and Reel; Mounting Technology: Through Hole; ComponentLink1Description: Manufacturer URL; ComponentLink1URL: http://www.onsemi.com/; ComponentLink2Description: Datasheet; ComponentLink2URL: http://www.onsemi.cn/pub_link/Collateral/MCR22-6-D.PDF; ComponentLink3Description: Package Specification; ComponentLink3URL: http://www.onsemi.cn/pub_link/Collateral/2N6426-D.PDF
footprint ONSC-TO-92-3-29-11 (TO, 3-Leads, Body Dia 4.7mm, Pitch 1.27mm)
pins: 1 K, 2 G, 3 A

## MCR22-8RL1G
designator D?
Sensitive Gate Silicon Controlled Rectifier, Reverse Blocking Thyristor, 3-Pin TO-92, Pb-Free, Tape and Reel; Manufacturer: On Semiconductor; PartNumber: MCR22-8RL1G; IT(RMS) Max (A): 1.5; ITSM Max (A): 15; DatasheetVersion: Rev. 6; PackageVersion: Rev. AM; PackageReference: TO-92-3-29-11_AM_SL; PackageDescription: 3-Pin Transistor Outline, Body 4.825 x 3.685 mm, Pitch 1.27 mm; Supplier 1: Digi-Key; Supplier Part Number 1: MCR22-8RL1GOSTR-ND; Supplier 2: Digi-Key; Supplier Part Number 2: MCR22-8RL1GOSCT-ND; Supplier 3: Newark; Supplier Part Number 3: 45J0824; Supplier 4: Mouser; Supplier Part Number 4: 863-MCR22-8RL1G; Packing: Tape and Reel; RoHS: Pb-Free; Mounting Technology: Through Hole; ComponentLink1Description: Manufacturer URL; ComponentLink1URL: http://www.onsemi.com/; ComponentLink2Description: Datasheet; ComponentLink2URL: http://www.onsemi.cn/pub_link/Collateral/MCR22-6-D.PDF; ComponentLink3Description: Package Specification; ComponentLink3URL: http://www.onsemi.cn/pub_link/Collateral/2N6426-D.PDF
footprint ONSC-TO-92-3-29-11 (TO, 3-Leads, Body Dia 4.7mm, Pitch 1.27mm)
pins: 1 K, 2 G, 3 A

## MCR25D
designator D?
Silicon Controlled Rectifier, Reverse Blocking Thyristor, 30 mA, 1 V, 3-Pin TO-220, Tube; Manufacturer: On Semiconductor; PartNumber: MCR25D; IGT Max (mA): 30; IT(RMS) Max (A): 25; ITSM Max (A): 300; VGT Max (V): 1; DatasheetVersion: Rev. 5; PackageVersion: Rev. AA; PackageReference: TO-220-3-221A-09_AA; PackageDescription: 3-Pin Flange Mount, Vertical Straight Lead, Body 9.97 x 4.445 mm, Pitch 2.54 mm; Packing: Tube; Mounting Technology: Through Hole; ComponentLink1Description: Manufacturer URL; ComponentLink1URL: http://www.onsemi.com/; ComponentLink2Description: Datasheet; ComponentLink2URL: http://www.onsemi.cn/pub_link/Collateral/MCR25-D.PDF; ComponentLink3Description: Package Specification; ComponentLink3URL: http://www.onsemi.com/pub_link/Collateral/MAC16C-D.PDF
footprint ONSC-TO-220-3-221A-09_AA (FM, 3-Leads, Body 10.3x4.85mm, Pitch 2.54mm)
pins: 1 K, 2 A, 3 G

## MCR25DG
designator D?
Silicon Controlled Rectifier, Reverse Blocking Thyristor, 30 mA, 1 V, 3-Pin TO-220, Pb-Free, Tube; Manufacturer: On Semiconductor; PartNumber: MCR25DG; IGT Max (mA): 30; IT(RMS) Max (A): 25; ITSM Max (A): 300; VGT Max (V): 1; DatasheetVersion: Rev. 5; PackageVersion: Rev. AA; PackageReference: TO-220-3-221A-09_AA; PackageDescription: 3-Pin Flange Mount, Vertical Straight Lead, Body 9.97 x 4.445 mm, Pitch 2.54 mm; Supplier 1: Digi-Key; Supplier Part Number 1: MCR25DGOS-ND; Supplier 2: Newark; Supplier Part Number 2: 42K0032; Supplier 3: Mouser; Supplier Part Number 3: 863-MCR25DG; Packing: Tube; RoHS: Pb-Free; Mounting Technology: Through Hole; ComponentLink1Description: Manufacturer URL; ComponentLink1URL: http://www.onsemi.com/; ComponentLink2Description: Datasheet; ComponentLink2URL: http://www.onsemi.cn/pub_link/Collateral/MCR25-D.PDF; ComponentLink3Description: Package Specification; ComponentLink3URL: http://www.onsemi.com/pub_link/Collateral/MAC16C-D.PDF
footprint ONSC-TO-220-3-221A-09_AA (FM, 3-Leads, Body 10.3x4.85mm, Pitch 2.54mm)
pins: 1 K, 2 A, 3 G

## MCR25M
designator D?
Silicon Controlled Rectifier, Reverse Blocking Thyristor, 30 mA, 1 V, 3-Pin TO-220, Tube; Manufacturer: On Semiconductor; PartNumber: MCR25M; IGT Max (mA): 30; IT(RMS) Max (A): 25; ITSM Max (A): 300; VGT Max (V): 1; DatasheetVersion: Rev. 5; PackageVersion: Rev. AA; PackageReference: TO-220-3-221A-09_AA; PackageDescription: 3-Pin Flange Mount, Vertical Straight Lead, Body 9.97 x 4.445 mm, Pitch 2.54 mm; Supplier 1: Digi-Key; Supplier Part Number 1: MCR25M-ND; Packing: Tube; Mounting Technology: Through Hole; ComponentLink1Description: Manufacturer URL; ComponentLink1URL: http://www.onsemi.com/; ComponentLink2Description: Datasheet; ComponentLink2URL: http://www.onsemi.cn/pub_link/Collateral/MCR25-D.PDF; ComponentLink3Description: Package Specification; ComponentLink3URL: http://www.onsemi.com/pub_link/Collateral/MAC16C-D.PDF
footprint ONSC-TO-220-3-221A-09_AA (FM, 3-Leads, Body 10.3x4.85mm, Pitch 2.54mm)
pins: 1 K, 2 A, 3 G

## MCR25MG
designator D?
Silicon Controlled Rectifier, Reverse Blocking Thyristor, 30 mA, 1 V, 3-Pin TO-220, Pb-Free, Tube; Manufacturer: On Semiconductor; PartNumber: MCR25MG; IGT Max (mA): 30; IT(RMS) Max (A): 25; ITSM Max (A): 300; VGT Max (V): 1; DatasheetVersion: Rev. 5; PackageVersion: Rev. AA; PackageReference: TO-220-3-221A-09_AA; PackageDescription: 3-Pin Flange Mount, Vertical Straight Lead, Body 9.97 x 4.445 mm, Pitch 2.54 mm; Supplier 1: Digi-Key; Supplier Part Number 1: MCR25MGOS-ND; Supplier 2: Newark; Supplier Part Number 2: 26K3704; Supplier 3: Mouser; Supplier Part Number 3: 863-MCR25MG; Packing: Tube; RoHS: Pb-Free; Mounting Technology: Through Hole; ComponentLink1Description: Manufacturer URL; ComponentLink1URL: http://www.onsemi.com/; ComponentLink2Description: Datasheet; ComponentLink2URL: http://www.onsemi.cn/pub_link/Collateral/MCR25-D.PDF; ComponentLink3Description: Package Specification; ComponentLink3URL: http://www.onsemi.com/pub_link/Collateral/MAC16C-D.PDF
footprint ONSC-TO-220-3-221A-09_AA (FM, 3-Leads, Body 10.3x4.85mm, Pitch 2.54mm)
pins: 1 K, 2 A, 3 G

## MCR25N
designator D?
Silicon Controlled Rectifier, Reverse Blocking Thyristor, 30 mA, 1 V, 3-Pin TO-220, Tube; Manufacturer: On Semiconductor; PartNumber: MCR25N; IGT Max (mA): 30; IT(RMS) Max (A): 25; ITSM Max (A): 300; VGT Max (V): 1; DatasheetVersion: Rev. 5; PackageVersion: Rev. AA; PackageReference: TO-220-3-221A-09_AA; PackageDescription: 3-Pin Flange Mount, Vertical Straight Lead, Body 9.97 x 4.445 mm, Pitch 2.54 mm; Packing: Tube; Mounting Technology: Through Hole; ComponentLink1Description: Manufacturer URL; ComponentLink1URL: http://www.onsemi.com/; ComponentLink2Description: Datasheet; ComponentLink2URL: http://www.onsemi.cn/pub_link/Collateral/MCR25-D.PDF; ComponentLink3Description: Package Specification; ComponentLink3URL: http://www.onsemi.com/pub_link/Collateral/MAC16C-D.PDF
footprint ONSC-TO-220-3-221A-09_AA (FM, 3-Leads, Body 10.3x4.85mm, Pitch 2.54mm)
pins: 1 K, 2 A, 3 G